# Altium schematic symbol library C1005X6S1C105K050BC.SchLib: 2 symbols
Pins are listed as number, name and electrical type; pins without a type are passive.

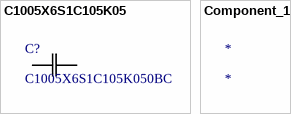
[diagram p0: symbols C1005X6S1C105K05 to Component_1]

## C1005X6S1C105K05
designator C?, comment C1005X6S1C105K050BC
No Description Available; Vendor: TDK; Built_By: EMA_UL_Team; SourceLibrary: TDK_2015_05_22; Type: DEV; Manufacturer_Part_Number: C1005X6S1C105K050BC; Copyright: Copyright (C) 2018 Accelerated Designs. All rights reserved; RefDes: RefDes
footprint CAP_1005_TDK
pins: 1, 2

## Component_1
designator *